# EAGLE library part MAX4427 (library r3_parts)
Dual High-Speed 1.5A MOSFET Driver The MAX4426/MAX4427/MAX4428 are dual monolithic MOSFET drivers designed to translate TTL/CMOS inputs to high voltage/current outputs. The MAX4426 is a dual inverting power MOSFET driver. The MAX4427 is a dual noninverting power MOSFET driver, and the MAX4428 contains one inverting section and one noninverting section. Delay times are nearly independent of VDD (see Typical Operating Characteristics). High-current output drivers rapidly charge and discharge the gate capacitance of even the largest power MOSFETs to within millivolts of the supply rails. This produces the power MOSFETs' minimum on resistance. The MAX4426/ MAX4427/MAX4428's high speed minimizes power loss- es in switching power supplies and DC-DC converters.
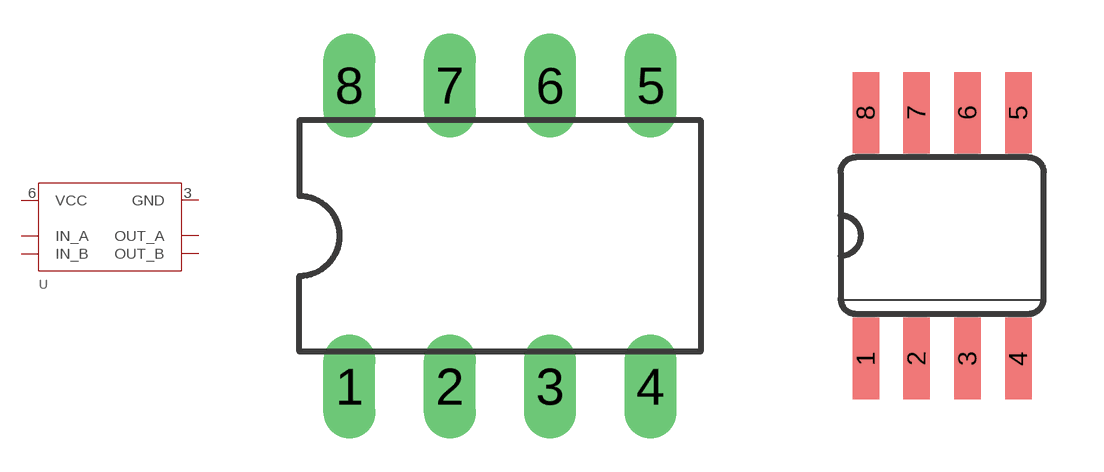
[diagram p0: symbol with the pads of DIL08; footprints DIL08, SO08]

Designator prefix -

## MAX4427CPA  [DIL08]
2  IN_A  in
3  GND  pwr
4  IN_B  in
5  OUT_B  out
6  VCC  pwr
7  OUT_A  out

## MAX4427CSA  [SO08]
Pads as for DIL08

## Footprint DIL08 (pad centres in mm)
Dual In Line Package
drill 0.813 long: 1 -3.81,-3.81; 2 -1.27,-3.81; 3 1.27,-3.81; 4 3.81,-3.81; 5 3.81,3.81; 6 1.27,3.81; 7 -1.27,3.81; 8 -3.81,3.81

## Footprint SO08 (pad centres in mm)
Small Outline Package SOIC 150 mil
smd 0.66 x 2.032: 1 -1.905,-3.073; 2 -0.635,-3.073; 3 0.635,-3.073; 4 1.905,-3.073; 5 1.905,3.073; 6 0.635,3.073; 7 -0.635,3.073; 8 -1.905,3.073